# EAGLE library part FT245RL (library receiver_2v0)
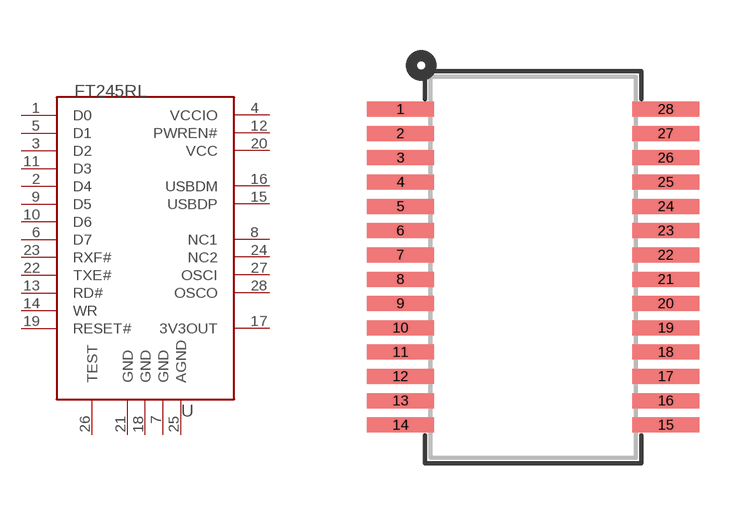
[diagram p6: symbol with the pads of SSOP-28; footprint SSOP-28]

Designator prefix U

## FT245RL  [SSOP-28]
1  D0
2  D4
3  D2
4  VCCIO
5  D1
6  D7
7  GND
8  NC1
9  D5
10  D6
11  D3
12  PWREN#
13  RD#
14  WR
15  USBDP
16  USBDM
17  3V3OUT
18  GND
19  RESET#
20  VCC
21  GND
22  TXE#
23  RXF#
24  NC2
25  AGND
26  TEST
27  OSCI
28  OSCO

## Footprint SSOP-28 (pad centres in mm)
smd 1.8 x 0.4: 1 -3.55,4.23; 2 -3.55,3.58; 3 -3.55,2.93; 4 -3.55,2.28; 5 -3.55,1.63; 6 -3.55,0.98; 7 -3.55,0.33; 8 -3.55,-0.32; 9 -3.55,-0.97; 10 -3.55,-1.62; 11 -3.55,-2.27; 12 -3.55,-2.92; 13 -3.55,-3.57; 14 -3.55,-4.22; 15 3.55,-4.22; 16 3.55,-3.57; 17 3.55,-2.92; 18 3.55,-2.27; 19 3.55,-1.62; 20 3.55,-0.97; 21 3.55,-0.32; 22 3.55,0.33; 23 3.55,0.98; 24 3.55,1.63; 25 3.55,2.28; 26 3.55,2.93; 27 3.55,3.58; 28 3.55,4.23